# EAGLE library part LM5008 (library dc-dc)
Buck Switching Regulator IC Positive Adjustable 2.5V 1 Output 350mA 8-TSSOP, 8-MSOP (0.118", 3.00mm Width)
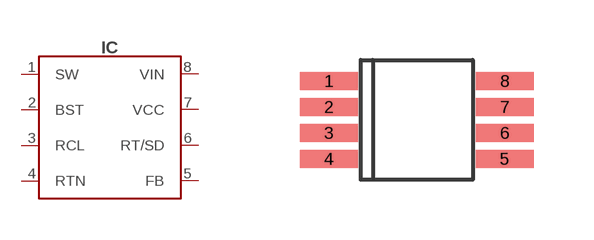
[diagram p29: symbol with the pads of MSOP8; footprint MSOP8]

Designator prefix IC

## LM5008-MSOP8 (DIGIKEY#: 296-LM5008MM/NOPBCT-ND; MANF: Texas Instruments; MANF#: LM5008MM/NOPB)  [MSOP8]
1  SW
2  BST
3  RCL
4  RTN
5  FB
6  RT/SD
7  VCC
8  VIN

## Footprint MSOP8 (pad centres in mm)
smd 1.45 x 0.45: 1 -2.2,0.975; 2 -2.2,0.325; 3 -2.2,-0.325; 4 -2.2,-0.975; 5 2.2,-0.975; 6 2.2,-0.325; 7 2.2,0.325; 8 2.2,0.975